# Altium schematic symbol library Popular.SchLib: 194 symbols
Pins are listed as number, name and electrical type; pins without a type are passive.

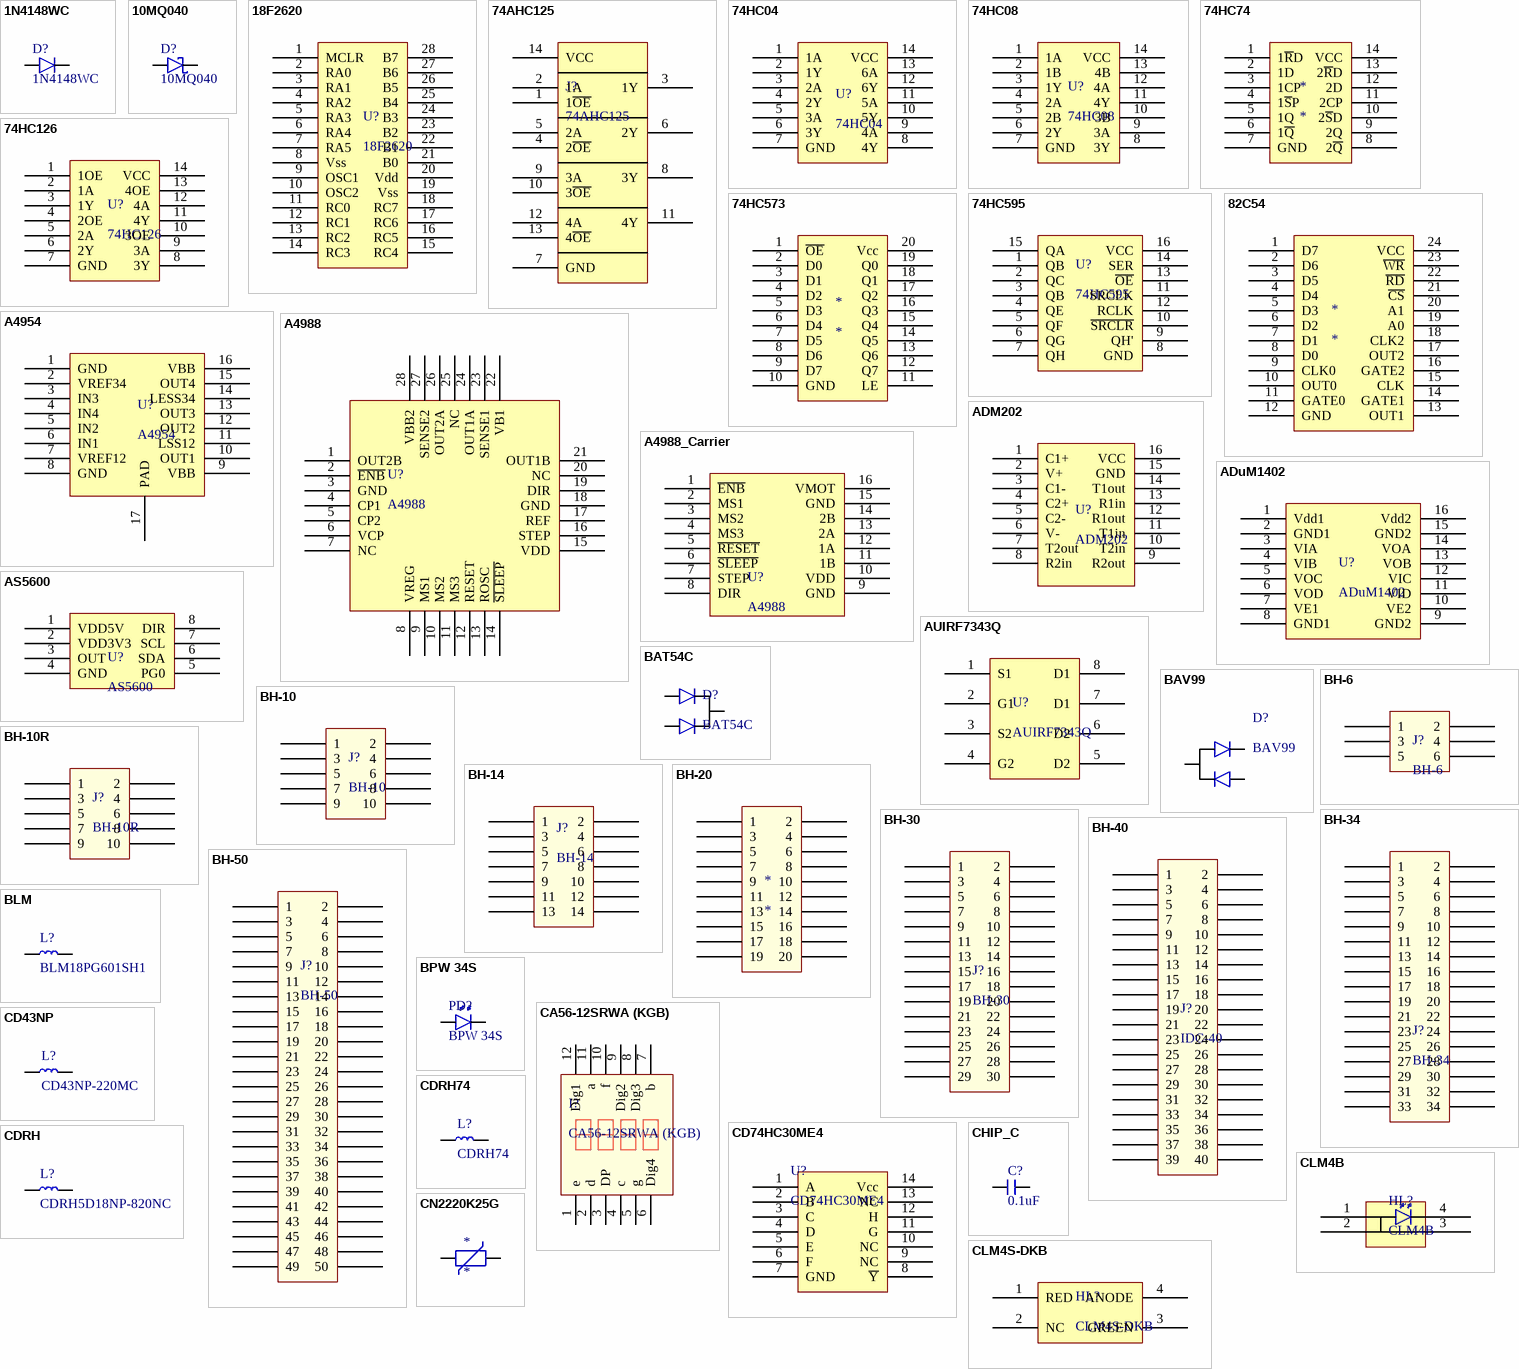
[diagram p0: symbols 1N4148WC to CN2220K25G]

## 1N4148WC
designator D?
footprint SOD323
pins: 1, 2

## 10MQ040
designator D?
Rectifier diode
footprint DO214-AC (Molded Diode, 2-Leads, Body 4,3x2,7mm, IPC High Density)
pins: 1, 2

## 18F2620
designator U?
pins: 1 MCLR, 2 RA0, 3 RA1, 4 RA2, 5 RA3, 6 RA4, 7 RA5, 8 Vss, 9 OSC1, 10 OSC2, 11 RC0, 12 RC1, 13 RC2, 14 RC3, 15 RC4, 16 RC5, 17 RC6, 18 RC7, 19 Vss, 20 Vdd, 21 B0, 22 B1, 23 B2, 24 B3, 25 B4, 26 B5, 27 B6, 28 B7

## 74AHC125
designator J?
footprint SOIC14
pins: 1 1~{OE}, 2 1A, 3 1Y, 4 2~{OE}, 5 2A, 6 2Y, 7 GND, 8 3Y, 9 3A, 10 3~{OE}, 11 4Y, 12 4A, 13 4~{OE}, 14 VCC

## 74HC04
designator U?
footprint SOIC14
pins: 1 1A, 2 1Y, 3 2A, 4 2Y, 5 3A, 6 3Y, 7 GND, 8 4Y, 9 4A, 10 5Y, 11 5A, 12 6Y, 13 6A, 14 VCC

## 74HC08
designator U?
pins: 1 1A, 2 1B, 3 1Y, 4 2A, 5 2B, 6 2Y, 7 GND, 8 3Y, 9 3A, 10 3B, 11 4Y, 12 4A, 13 4B, 14 VCC

## 74HC74
designator *
pins: 1 1~{R}D, 2 1D, 3 1CP, 4 1~{S}P, 5 1Q, 6 1~{Q}, 7 GND, 8 2~{Q}, 9 2Q, 10 2~{S}D, 11 2CP, 12 2D, 13 2~{R}D, 14 VCC

## 74HC126
designator U?
footprint SOIC14
pins: 1 1OE, 2 1A, 3 1Y, 4 2OE, 5 2A, 6 2Y, 7 GND, 8 3Y, 9 3A, 10 3OE, 11 4Y, 12 4A, 13 4OE, 14 VCC

## 74HC573
designator *
pins: 1 ~{OE}, 2 D0, 3 D1, 4 D2, 5 D3, 6 D4, 7 D5, 8 D6, 9 D7, 10 GND, 11 LE, 12 Q7, 13 Q6, 14 Q5, 15 Q4, 16 Q3, 17 Q2, 18 Q1, 19 Q0, 20 Vcc

## 74HC595
designator U?
8-bit shift register
footprint SOIC16
pins: 1 QB, 2 QC, 3 QВ, 4 QE , 5 QF, 6 QG, 7 QH, 8 GND, 9 QH', 10 ~{SRCLR}, 11 SRCLK, 12 RCLK, 13 ~{OE}, 14 SER, 15 QA, 16 VCC

## 82C54
designator *
pins: 1 D7, 2 D6, 3 D5, 4 D4, 5 D3, 6 D2, 7 D1, 8 D0, 9 CLK0, 10 OUT0, 11 GATE0, 12 GND, 13 OUT1, 14 GATE1, 15 CLK, 16 GATE2, 17 OUT2, 18 CLK2, 19 A0, 20 A1, 21 ~{CS}, 22 ~{RD}, 23 ~{WR}, 24 VCC

## A4954
designator U?
DMOS PWM Motor Driver
footprint TSSOP-16P
pins: 1 GND, 2 VREF34, 3 IN3, 4 IN4, 5 IN2, 6 IN1, 7 VREF12, 8 GND, 9 VBB, 10 OUT1, 11 LSS12, 12 OUT2, 13 OUT3, 14 LESS34, 15 OUT4, 16 VBB, 17 PAD

## A4988
designator U?
footprint QFN28 (QFN, 28-Leads, Body 5,00x5,00mm, Pitch 0,50mm, Thermal Pad 3,15x3,15mm, IPC Medium Density)
pins: 1 OUT2B, 2 ~{ENB}, 3 GND, 4 CP1, 5 CP2, 6 VCP, 7 NC, 8 VREG, 9 MS1, 10 MS2, 11 MS3, 12 RESET, 13 ROSC, 14 ~{SLEEP}, 15 VDD, 16 STEP, 17 REF, 18 GND, 19 DIR, 20 NC, 21 OUT1B, 22 VB1, 23 SENSE1, 24 OUT1A, 25 NC, 26 OUT2A, 27 SENSE2, 28 VBB2

## A4988_Carrier
designator U?, comment A4988
footprint A4988
pins: 1 ~{ENB}, 2 MS1, 3 MS2, 4 MS3, 5 ~{RESET}, 6 ~{SLEEP}, 7 STEP, 8 DIR, 9 GND, 10 VDD, 11 1B, 12 1A, 13 2A, 14 2B, 15 GND, 16 VMOT

## ADM202
designator U?
pins: 1 C1+, 2 V+, 3 C1-, 4 C2+, 5 C2-, 6 V-, 7 T2out, 8 R2in, 9 R2out, 10 T2in, 11 T1in, 12 R1out, 13 R1in, 14 T1out, 15 GND, 16 VCC

## ADuM1402
designator U?
Quad-channel digital isolator
footprint SOIC16-7.5 (SOIC, 16-Leads, Body 10,5x7,6mm (max), Pitch 1,27mm, IPC Medium Density)
pins: 1 Vdd1, 2 GND1, 3 VIA, 4 VIB, 5 VOC, 6 VOD, 7 VE1, 8 GND1, 9 GND2, 10 VE2, 11 VID, 12 VIC, 13 VOB, 14 VOA, 15 GND2, 16 Vdd2

## AS5600
designator U?
program magnetic rotary position  sensor
footprint SOIC8 (SOIC, 8-Leads, Body 5,0x4,0mm (max), Pitch 1,27mm, IPC Medium Density)
pins: 1 VDD5V, 2 VDD3V3, 3 OUT, 4 GND, 5 PG0, 6 SDA, 7 SCL, 8 DIR

## AUIRF7343Q
designator U?
MOSFET,NP
footprint SOIC8 (SOIC, 8-Leads, Body 5,0x4,0mm (max), Pitch 1,27mm, IPC Medium Density)
3D model SOIC8 (PCB3D Model)
pins: 1 S1, 2 G1, 3 S2, 4 G2, 5 D2, 6 D2, 7 D1, 8 D1

## BAT54C
designator D?
footprint SOT23 (SOT23, 3-Leads, Body 3,0x2,6mm (max), Pitch 0,95mm, IPC Medium Density)
pins: 1, 2, 3

## BAV99
designator D?
350 mW high-speed switching diode array
footprint SOT23 (SOT23, 3-Leads, Body 3,0x2,6mm (max), Pitch 0,95mm, IPC Medium Density)
pins: 1, 2, 3

## BH-6
designator J?
TE 2-1761713-1
footprint SMC-6 (TE 2-1761713-1)
pins: 1, 2, 3, 4, 5, 6

## BH-10
designator J?
IDC-10MS
footprint BH-10
pins: 1, 2, 3, 4, 5, 6, 7, 8, 9, 10

## BH-10R
designator J?
footprint BH-10R
pins: 1, 2, 3, 4, 5, 6, 7, 8, 9, 10

## BH-14
designator J?
footprint BH-14
pins: 1, 2, 3, 4, 5, 6, 7, 8, 9, 10, 11, 12, 13, 14

## BH-20
designator *
footprint BH-20
pins: 1, 2, 3, 4, 5, 6, 7, 8, 9, 10, 11, 12, 13, 14, 15, 16, 17, 18, 19, 20

## BH-30
designator J?
footprint BH-30
pins: 1, 2, 3, 4, 5, 6, 7, 8, 9, 10, 11, 12, 13, 14, 15, 16, 17, 18, 19, 20, 21, 22, 23, 24, 25, 26, 27, 28, 29, 30

## BH-34
designator J?
pins: 1, 2, 3, 4, 5, 6, 7, 8, 9, 10, 11, 12, 13, 14, 15, 16, 17, 18, 19, 20, 21, 22, 23, 24, 25, 26, 27, 28, 29, 30, 31, 32, 33, 34

## BH-40
designator J?, comment IDC-40
footprint BH-40
pins: 1, 2, 3, 4, 5, 6, 7, 8, 9, 10, 11, 12, 13, 14, 15, 16, 17, 18, 19, 20, 21, 22, 23, 24, 25, 26, 27, 28, 29, 30, 31, 32, 33, 34, 35, 36, 37, 38, 39, 40

## BH-50
designator J?
IDC-50MS
footprint BH-50
pins: 1, 2, 3, 4, 5, 6, 7, 8, 9, 10, 11, 12, 13, 14, 15, 16, 17, 18, 19, 20, 21, 22, 23, 24, 25, 26, 27, 28, 29, 30, 31, 32, 33, 34, 35, 36, 37, 38, 39, 40, 41, 42, 43, 44, 45, 46, 47, 48, 49, 50

## BLM
designator L?, comment BLM18PG601SH1
Ferrite Beads
footprint CHIP_R_0603
pins: 1, 2

## BPW 34S
designator PD?
footprint BWM34S
pins: 1, 2

## CA56-12SRWA (KGB)
designator I?
7x4 segment
pins: 1 e, 2 d, 3 DP, 4 c, 5 g, 6 Dig4, 7 b, 8 Dig3, 9 Dig2, 10 f, 11 a, 12 Dig1

## CD43NP
designator L?, comment CD43NP-220MC
footprint CD43
pins: 1, 2

## CD74HC30ME4
designator U?
8 AND-NO
footprint SOIC14
pins: 1 A, 2 B, 3 C, 4 D, 5 E, 6 F, 7 GND, 8 ~{Y}, 9 NC, 10 NC, 11 G, 12 H, 13 NC, 14 Vcc

## CDRH
designator L?, comment CDRH5D18NP-820NC
footprint CDRH (Inductor CDRH5D18NP-820NC)
pins: 1, 2

## CDRH74
designator L?
Ferrite drum core construction
footprint CDRH74
pins: 1, 2

## CHIP_C
designator C?, comment 0.1uF
capacitor ceramic
footprint CHIP_C_0805
footprint CHIP_C_1206
footprint CHIP_C_1210
footprint CHIP_C_0603
pins: 1, 2

## CLM4B
designator HL?
LED
footprint PLCC4
pins: 1, 2, 3, 4

## CLM4S-DKB
designator HL?
LED
footprint PLCC4
pins: 1 RED, 2 NC, 3 GREEN, 4 ANODE

## CN2220K25G
designator *
footprint CHIP_L_2220
pins: 1, 2

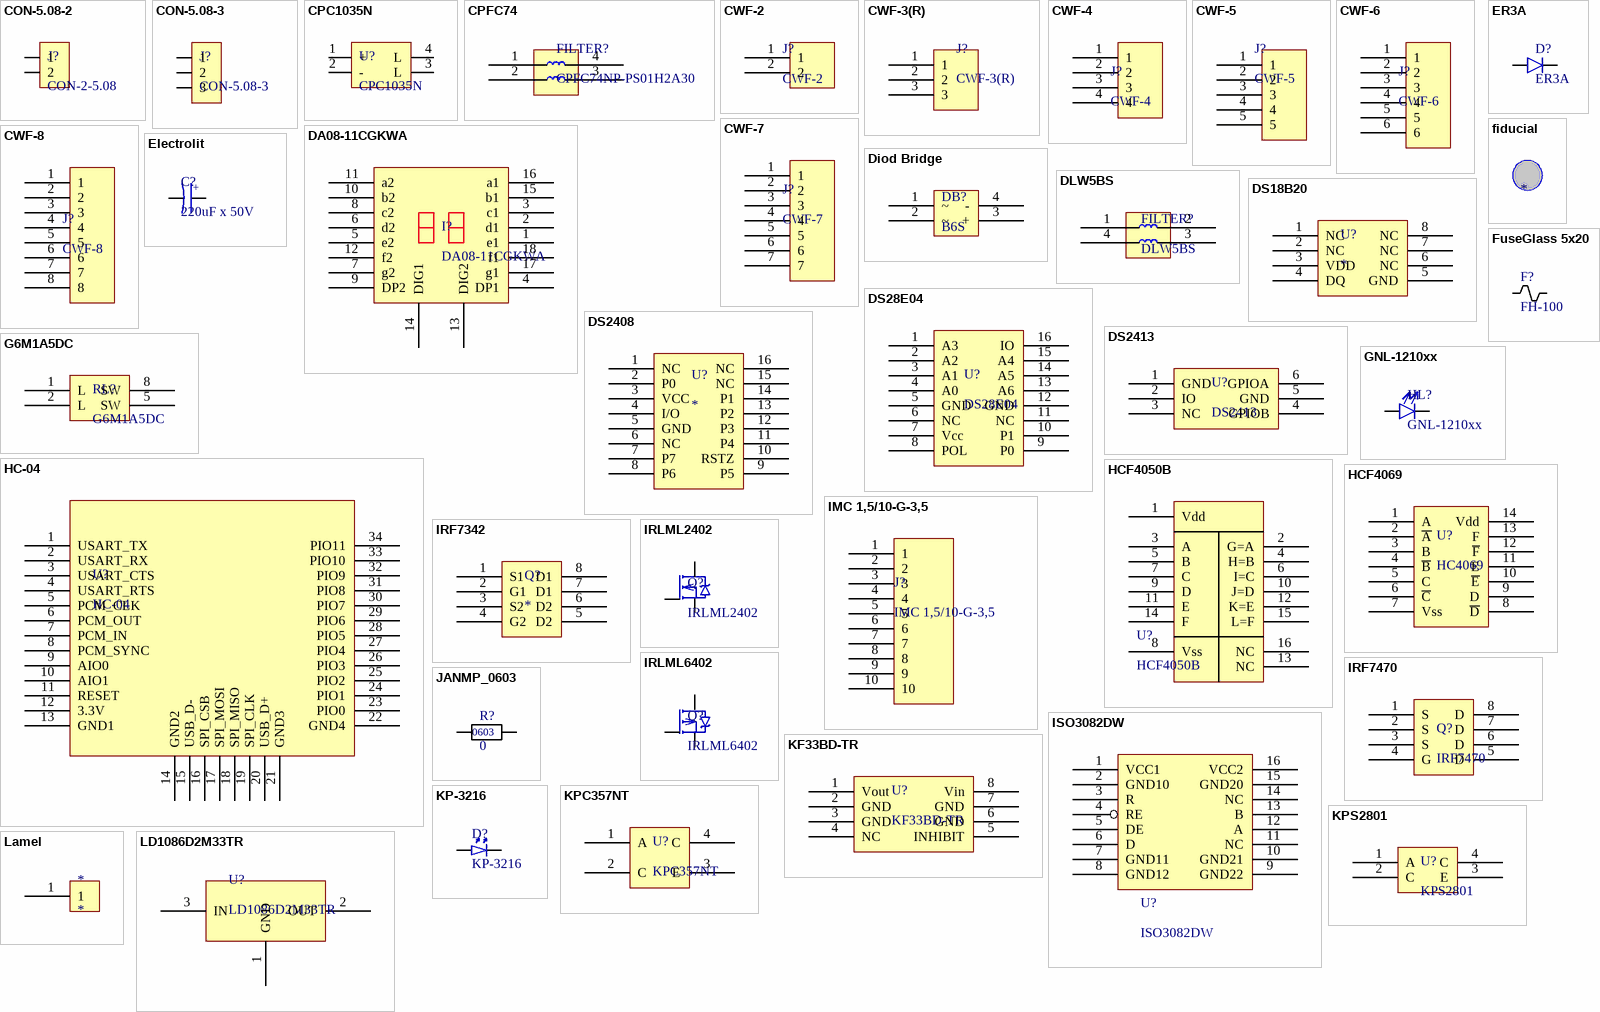
[diagram p1: symbols CON-5.08-2 to LD1086D2M33TR]

## CON-5.08-2
designator J?, comment CON-2-5.08
footprint CON_2_5.08
pins: 1, 2

## CON-5.08-3
designator J?
footprint CON_3_5.08
pins: 1, 2, 3

## CPC1035N
designator U?
4-Pin SOP OptoMOS® Relay
footprint SOP-4 (Footprint not found)
pins: 1 +, 2 -, 3 L, 4 L

## CPFC74
designator FILTER?, comment CPFC74NP-PS01H2A30
footprint CPFC
pins: 1 IN, 2 IN, 3 OUT, 4 OUT

## CWF-2
designator J?
Connector
footprint CWF-2
pins: 1, 2

## CWF-3(R)
designator J?
Conector
footprint CWF-3R
footprint CWF-3
pins: 1, 2, 3

## CWF-4
designator J?
Connector
footprint CWF-4
pins: 1, 2, 3, 4

## CWF-5
designator J?
footprint CWF-5
pins: 1, 2, 3, 4, 5

## CWF-6
designator J?
footprint CWF-6
pins: 1, 2, 3, 4, 5, 6

## CWF-7
designator J?
pins: 1, 2, 3, 4, 5, 6, 7

## CWF-8
designator J?
footprint CWF-8
pins: 1, 2, 3, 4, 5, 6, 7, 8

## DA08-11CGKWA
designator I?
7x2 segment
footprint DIP18_long
pins: 1 e1, 2 d1, 3 c1, 4 DP1, 5 e2, 6 d2, 7 g2, 8 c2, 9 DP2, 10 b2, 11 a2, 12 f2, 13 DIG2, 14 DIG1, 15 b1, 16 a1, 17 g1, 18 f1

## Diod Bridge
designator DB?, comment B6S
footprint DB-1MS
pins: 1 ~, 2 ~, 3 +, 4 -

## DLW5BS
designator FILTER?
Filter
footprint DLW5AH
pins: 1 IN, 2 OUT, 3 OUT, 4 IN

## DS18B20
designator U?
Termometr
footprint SOIC8 (SOIC, 8-Leads, Body 5,0x4,0mm (max), Pitch 1,27mm, IPC Medium Density)
pins: 1 NC, 2 NC, 3 VDD, 4 DQ, 5 GND, 6 NC, 7 NC, 8 NC

## DS28E04
designator U?
2IO 1-Wire
footprint SOIC16
pins: 1 A3, 2 A2, 3 A1, 4 A0, 5 GND, 6 NC, 7 Vcc, 8 POL, 9 P0, 10 P1, 11 NC, 12 GND, 13 A6, 14 A5, 15 A4, 16 IO

## DS2408
designator U?
8IO 1-Wire
footprint SOIC16
pins: 1 NC, 2 P0, 3 VCC, 4 I/O, 5 GND, 6 NC, 7 P7, 8 P6, 9 P5, 10 RSTZ, 11 P4, 12 P3, 13 P2, 14 P1, 15 NC, 16 NC

## DS2413
designator U?
1-wire 2IO
footprint TSOC6
pins: 1 GND, 2 IO, 3 NC, 4 GPIOB, 5 GND, 6 GPIOA

## Electrolit
designator C?, comment 220uF x 50V
footprint ALUM_CAP_G (CE050M0220REG-1010 (YAG))
footprint ALUM_CAP_F
footprint ALUM_CAP_E
footprint ALUM_CAP_C
footprint AlCap_8x8x11
footprint ALCAP_10x20
pins: 1, 2
text: +

## ER3A
designator D?
diode
footprint DO-214AB (SMCJ)
pins: 1, 2

## fiducial
designator *
footprint fidusial

## FuseGlass 5x20
designator F?, comment FH-100
footprint FH-100
pins: 1, 2

## G6M1A5DC
designator RL?
RELAY
footprint SIP8
pins: 1 L, 2 L, 5 SW, 8 SW

## GNL-1210xx
designator HL?
LED
footprint CHIP-LED-1210
pins: 1 C, 2 A

## HC-04
designator U?
Bluetooth
footprint HC-05
pins: 1 USART_TX, 2 USART_RX, 3 USART_CTS, 4 USART_RTS, 5 PCM_CLK, 6 PCM_OUT, 7 PCM_IN, 8 PCM_SYNC, 9 AIO0, 10 AIO1, 11 RESET, 12 3.3V, 13 GND1, 14 GND2, 15 USB_D-, 16 SPI_CSB, 17 SPI_MOSI, 18 SPI_MISO, 19 SPI_CLK, 20 USB_D+, 21 GND3, 22 GND4, 23 PIO0, 24 PIO1, 25 PIO2, 26 PIO3, 27 PIO4, 28 PIO5, 29 PIO6, 30 PIO7, 31 PIO8, 32 PIO9, 33 PIO10, 34 PIO11

## HCF4050B
designator U?
Bufer logic IC
footprint SOIC16
pins: 1 Vdd, 2 G=A, 3 A, 4 H=B, 5 B , 6 I=C, 7 C, 8 Vss, 9 D , 10 J=D, 11 E , 12 K=E, 13 NC, 14 F, 15 L=F, 16 NC

## HCF4069
designator U?, comment HC4069
HEX INVERTER
footprint SOIC14
pins: 1 A, 2 ~{A}, 3 B, 4 ~{B}, 5 C, 6 ~{C}, 7 Vss, 8 ~{D}, 9 D, 10 ~{E}, 11 E, 12 ~{F}, 13 F, 14 Vdd

## IMC 1,5/10-G-3,5
designator J?
Phoenix
footprint IMC 1,5/10-G-3,5
pins: 1, 2, 3, 4, 5, 6, 7, 8, 9, 10

## IRF7342
designator Q?
MOSFET
footprint SOIC8 (SOIC, 8-Leads, Body 5,0x4,0mm (max), Pitch 1,27mm, IPC Medium Density)
pins: 1 S1, 2 G1, 3 S2, 4 G2, 5 D2, 6 D2, 7 D1, 8 D1

## IRF7470
designator Q?
SMPS MOSFET. HEXFET
footprint SOIC8 (SOIC, 8-Leads, Body 5,0x4,0mm (max), Pitch 1,27mm, IPC Medium Density)
3D model SOIC8 (PCB3D Model)
pins: 1 S, 2 S, 3 S, 4 G, 5 D, 6 D, 7 D, 8 D

## IRLML2402
designator Q?
n-chanal MOSFET
footprint SOT23 (SOT23, 3-Leads, Body 3,0x2,6mm (max), Pitch 0,95mm, IPC Medium Density)
pins: 1 G, 2 S, 3 D

## IRLML6402
designator Q?
p-chanal MOSFET
footprint SOT23 (SOT23, 3-Leads, Body 3,0x2,6mm (max), Pitch 0,95mm, IPC Medium Density)
pins: 1 G, 2 S, 3 D

## ISO3082DW
designator U?
Digital Isolators Full & Half- Duplex RS-485
footprint SOIC16-7.5 (SOIC, 16-Leads, Body 10,5x7,6mm (max), Pitch 1,27mm, IPC Medium Density)
pins: 1 VCC1, 2 GND10, 3 R, 4 RE, 5 DE, 6 D, 7 GND11, 8 GND12, 9 GND22, 10 GND21, 11 NC, 12 A, 13 B, 14 NC, 15 GND20, 16 VCC2

## JANMP_0603
designator R?, comment 0
jamper
footprint 0R 0603
pins: 1, 2
text: 0603

## KF33BD-TR
designator U?
Very low drop voltage regulators with inhibit
footprint SOIC8 (SOIC, 8-Leads, Body 5,0x4,0mm (max), Pitch 1,27mm, IPC Medium Density)
pins: 1 Vout, 2 GND, 3 GND, 4 NC, 5 INHIBIT, 6 GND, 7 GND, 8 Vin

## KP-3216
designator D?
LED
footprint CHIP_D_1632
pins: 1 A, 2 C

## KPC357NT
designator U?
4PIN MINI-FLAT PHOTOTRANSISTOR
footprint SOP4
pins: 1 A, 2 C, 3 E, 4 C

## KPS2801
designator U?
4PIN SSOP PHOTOTRANSISTOR
footprint SSOP-4
pins: 1 A, 2 C, 3 E, 4 C

## Lamel
designator *
footprint LAMEL
pins: 1

## LD1086D2M33TR
designator U?
1.5 A adjustable and fixed low drop positive voltage regulator
footprint DPAK (TO-252-3)
pins: 1 GND, 2 OUT, 3 IN

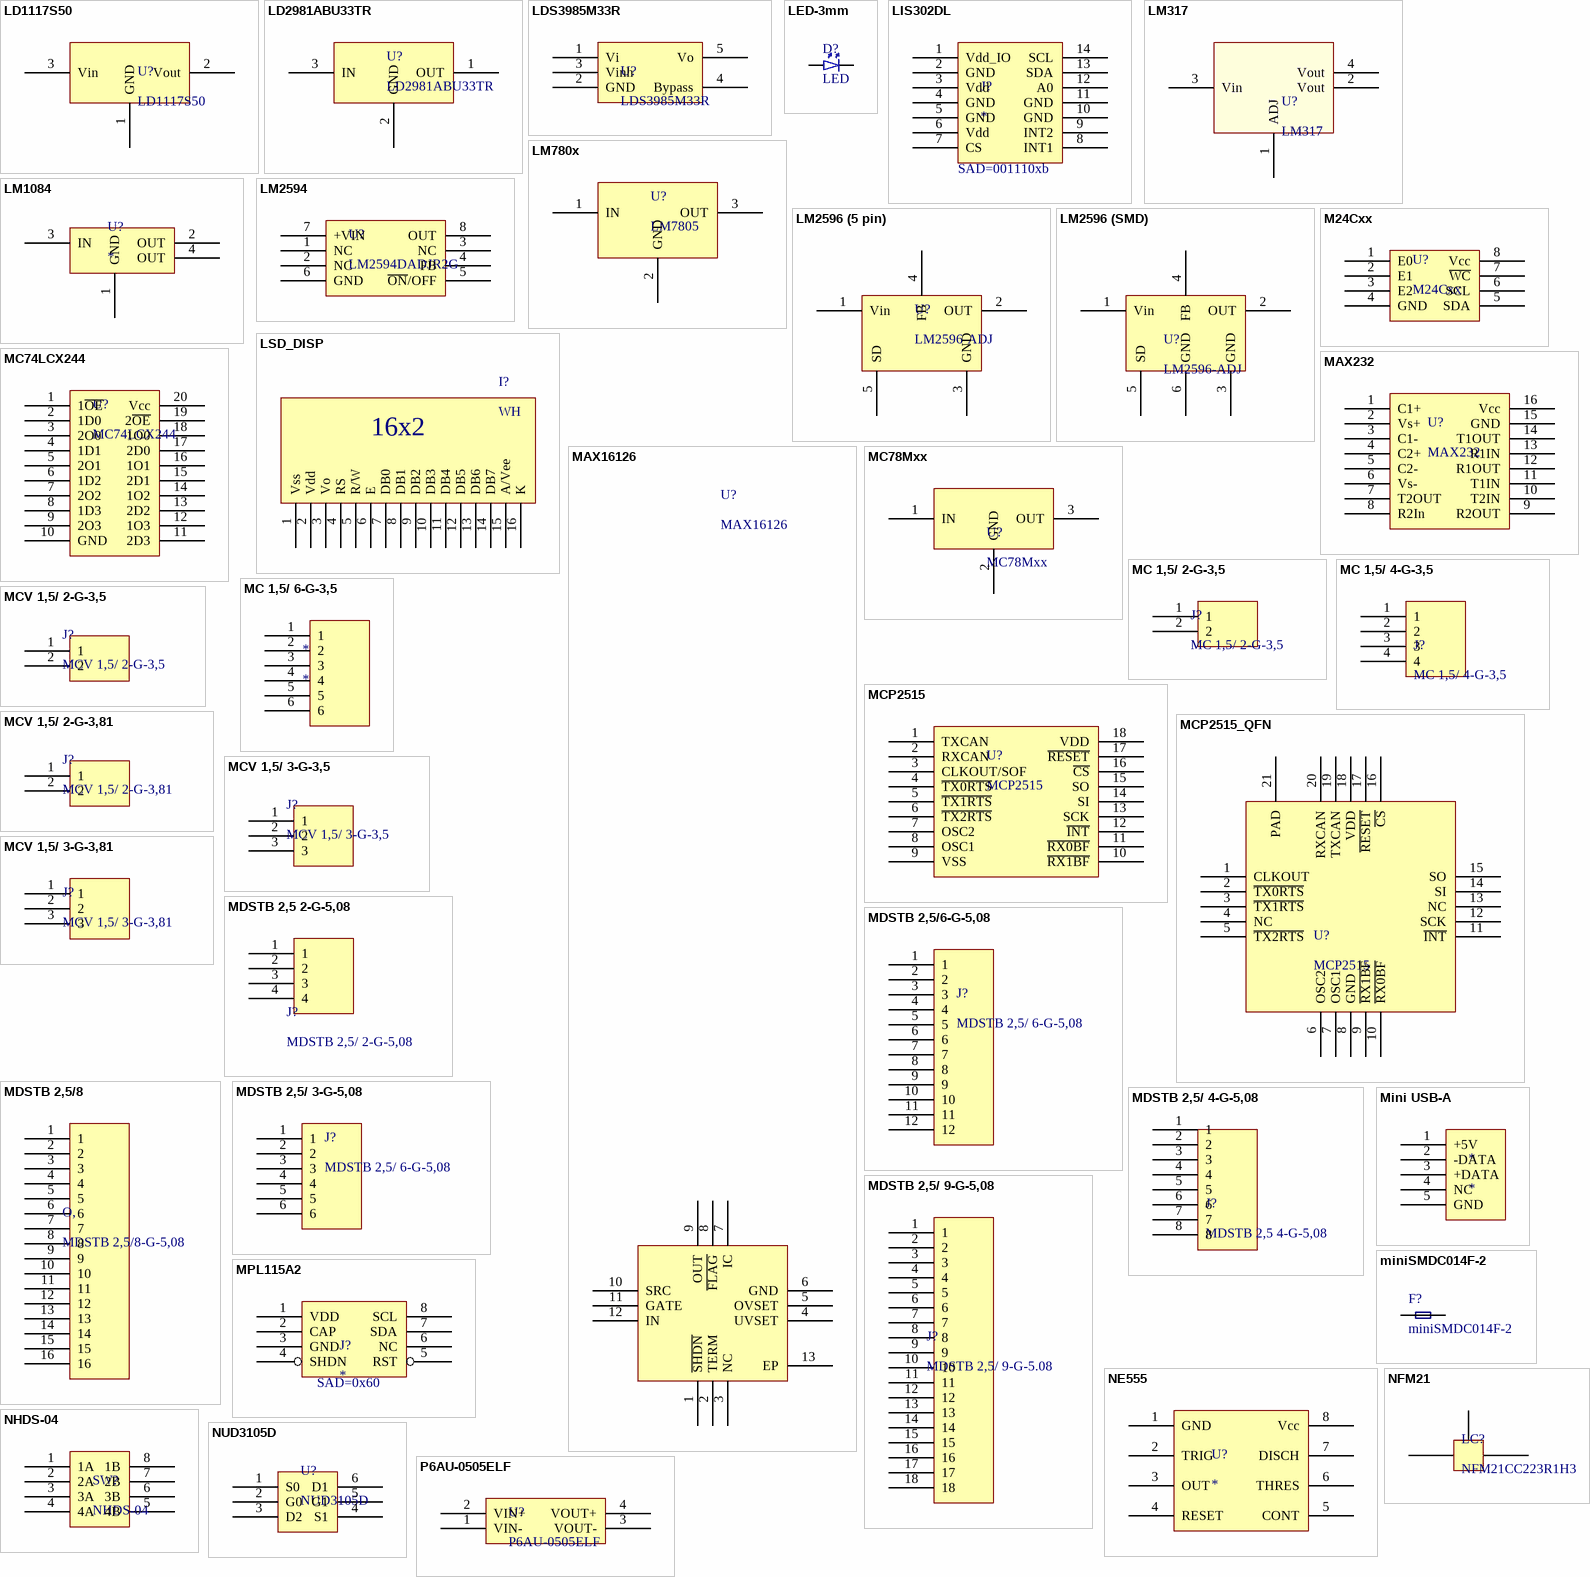
[diagram p2: symbols LD1117S50 to P6AU-0505ELF]

## LD1117S50
designator U?
LDO Voltage Regulators
footprint SOT223
pins: 1 GND, 2 Vout, 3 Vin

## LD2981ABU33TR
designator U?
Voltage Regulator
footprint SOT89
pins: 1 OUT, 2 GND, 3 IN

## LDS3985M33R
designator U?
footprint SOT23-5L
pins: 1 Vi, 2 GND, 3 Vinh, 4 Bypass, 5 Vo

## LED-3mm
designator D?, comment LED
footprint LED-3mm
footprint L-424GDT
footprint L-242YDT
pins: 1 A, 2 C

## LIS302DL
designator J?
motion sensor
footprint LGA14 (LCC, 16-Pins, Body 5,00x3,00mmx0,92mm, Pitch 0,80mm, IPC Medium Density)
pins: 1 Vdd_IO, 2 GND, 3 Vdd, 4 GND, 5 GND, 6 Vdd, 7 CS, 8 INT1, 9 INT2, 10 GND, 11 GND, 12 A0, 13 SDA, 14 SCL
text: SAD=001110xb

## LM317
designator U?
footprint SOT223
pins: 1 ADJ, 2 Vout, 3 Vin, 4 Vout

## LM780x
designator U?, comment LM7805
footprint TO-220
pins: 1 IN, 2 GND, 3 OUT

## LM1084
designator U?
3.3, 5, 12 Linear regulator
footprint TO-263
footprint TO-220
pins: 1 GND, 2 OUT, 3 IN, 4 OUT

## LM2594
designator U?, comment LM2594DADJR2G
0.5 A Step-Down  Voltage Regulator
footprint SOIC8 (SOIC, 8-Leads, Body 5,0x4,0mm (max), Pitch 1,27mm, IPC Medium Density)
pins: 1 NC, 2 NC, 3 NC, 4 FB, 5 ~{ON}/OFF, 6 GND, 7 +VIN, 8 OUT

## LM2596 (5 pin)
designator U?, comment LM2596-ADJ
footprint TO-220-5
pins: 1 Vin, 2 OUT, 3 GND, 4 FB, 5 SD

## LM2596 (SMD)
designator U?, comment LM2596-ADJ
footprint TO263-5
pins: 1 Vin, 2 OUT, 3 GND, 4 FB, 5 SD, 6 GND

## LSD_DISP
designator I?, comment WH
footprint LCD_2*16
pins: 1 Vss, 2 Vdd, 3 Vo, 4 RS, 5 R/W, 6 E, 7 DB0, 8 DB1, 9 DB2, 10 DB3, 11 DB4, 12 DB5, 13 DB6, 14 DB7, 15 A/Vee, 16 K
text: 16x2

## M24Cxx
designator U?
EEPROM I2C
footprint SOIC8 (SOIC, 8-Leads, Body 5,0x4,0mm (max), Pitch 1,27mm, IPC Medium Density)
pins: 1 E0, 2 E1, 3 E2, 4 GND, 5 SDA, 6 SCL, 7 ~{WC}, 8 Vcc

## MAX232
designator U?
footprint SOIC16
pins: 1 C1+, 2 Vs+, 3 C1-, 4 C2+, 5 C2-, 6 Vs-, 7 T2OUT, 8 R2In, 9 R2OUT, 10 T2IN, 11 T1IN, 12 R1OUT, 13 R1IN, 14 T1OUT, 15 GND, 16 Vcc

## MAX16126
designator U?
Voltage protection circuits
footprint QFN12
pins: 1 ~{SHDN}, 2 TERM, 3 NC, 4 UVSET, 5 OVSET, 6 GND, 7 IC, 8 ~{FLAG}, 9 OUT, 10 SRC, 11 GATE, 12 IN, 13 EP

## MC74LCX244
designator U?
CMOS Octal Buffer
footprint SOIC20
pins: 1 1~{OE}, 2 1D0, 3 2O0, 4 1D1, 5 2O1, 6 1D2, 7 2O2, 8 1D3, 9 2O3, 10 GND, 11 2D3, 12 1O3, 13 2D2, 14 1O2, 15 2D1, 16 1O1, 17 2D0, 18 1O0, 19 2~{OE}, 20 Vcc

## MC78Mxx
designator U?
Liner positive voltage regulator
footprint DPAK (TO-252-3)
pins: 1 IN, 2 GND, 3 OUT

## MC 1,5/ 2-G-3,5
designator J?
footprint MC 1,5/ 2-G-3,5
pins: 1, 2

## MC 1,5/ 4-G-3,5
designator J?
footprint MC 1,5/ 4-G-3,5
pins: 1, 2, 3, 4

## MC 1,5/ 6-G-3,5
designator *
footprint MC 1,5/ 6-G-3,5
pins: 1, 2, 3, 4, 5, 6

## MCP2515
designator U?
Stand-Alone CAN Controller With SPI Interface
footprint SOIC18
pins: 1 TXCAN, 2 RXCAN, 3 CLKOUT/SOF, 4 ~{TX0RTS}, 5 ~{TX1RTS}, 6 ~{TX2RTS}, 7 OSC2, 8 OSC1, 9 VSS, 10 ~{RX1BF}, 11 ~{RX0BF}, 12 ~{INT}, 13 SCK, 14 SI, 15 SO, 16 ~{CS}, 17 ~{RESET}, 18 VDD

## MCP2515_QFN
designator U?, comment MCP2515
footprint QFN20
pins: 1 CLKOUT, 2 ~{TX0RTS}, 3 ~{TX1RTS}, 4 NC, 5 ~{TX2RTS}, 6 OSC2, 7 OSC1, 8 GND, 9 ~{RX1BF}, 10 ~{RX0BF}, 11 ~{INT}, 12 SCK, 13 NC, 14 SI, 15 SO, 16 ~{CS}, 17 ~{RESET}, 18 VDD, 19 TXCAN, 20 RXCAN, 21 PAD

## MCV 1,5/ 2-G-3,5
designator J?
PHOENIX
footprint MCV 1,5/ 2-G-3,5
pins: 1, 2

## MCV 1,5/ 2-G-3,81
designator J?
footprint MC 1,5/ 2-G-3,81
pins: 1, 2

## MCV 1,5/ 3-G-3,5
designator J?
PHOENIX
footprint MCV 1,5/ 3-G-3,5
pins: 1, 2, 3

## MCV 1,5/ 3-G-3,81
designator J?
footprint MC 1,5/ 3-G-3,81
pins: 1, 2, 3

## MDSTB 2,5 2-G-5,08
designator J?, comment MDSTB 2,5/ 2-G-5,08
PHOENIX
footprint MDSTB 2,5/ 2-G-5,08
pins: 1, 2, 3, 4

## MDSTB 2,5/6-G-5,08
designator J?, comment MDSTB 2,5/ 6-G-5,08
PHOENIX
footprint MDSTB 2,5/ 6-G-5,08
pins: 1, 2, 3, 4, 5, 6, 7, 8, 9, 10, 11, 12

## MDSTB 2,5/8
designator О,, comment MDSTB 2,5/8-G-5,08
PHOENIX
footprint MDSTB 2,5/ 8-G-5,08
pins: 1, 2, 3, 4, 5, 6, 7, 8, 9, 10, 11, 12, 13, 14, 15, 16

## MDSTB 2,5/ 3-G-5,08
designator J?, comment MDSTB 2,5/ 6-G-5,08
PHOENIX
footprint MDSTB 2,5/ 3-G-5,08
pins: 1, 2, 3, 4, 5, 6

## MDSTB 2,5/ 4-G-5,08
designator J?, comment MDSTB 2,5 4-G-5,08
PHOENIX
footprint MDSTB 2,5/ 4-G-5,08
pins: 1, 2, 3, 4, 5, 6, 7, 8

## MDSTB 2,5/ 9-G-5,08
designator J?, comment MDSTB 2,5/ 9-G-5.08
footprint MDSTB 2,5/ 9-G-5,08
pins: 1, 2, 3, 4, 5, 6, 7, 8, 9, 10, 11, 12, 13, 14, 15, 16, 17, 18

## Mini USB-A
designator *
pins: 1 +5V, 2 -DATA, 3 +DATA, 4 NC, 5 GND

## miniSMDC014F-2
designator F?
Fuse
footprint SMDC014F
pins: 1, 2

## MPL115A2
designator J?
Barometer
footprint LGA8
pins: 1 VDD, 2 CAP, 3 GND, 4 SHDN, 5 RST, 6 NC, 7 SDA, 8 SCL
text: SAD=0x60

## NE555
designator U?
footprint SOIC8 (SOIC, 8-Leads, Body 5,0x4,0mm (max), Pitch 1,27mm, IPC Medium Density)
3D model SOIC8 (PCB3D Model)
pins: 1 GND, 2 TRIG, 3 OUT, 4 RESET, 5 CONT, 6 THRES, 7 DISCH, 8 Vcc

## NFM21
designator LC?, comment NFM21CC223R1H3
footprint EMIFIL
pins: 1, 2, 3

## NHDS-04
designator SW?
DIP-SW-4-SMD
footprint Model Name (Model Description)
footprint Model Name (Model Description)
footprint DSHP (DIP-SW-4-SMD)
pins: 1 1A, 2 2A, 3 3A, 4 4A, 5 4B, 6 3B, 7 2B, 8 1B

## NUD3105D
designator U?
Relay driver
footprint SC-74
pins: 1 S0, 2 G0, 3 D2, 4 S1, 5 G1, 6 D1

## P6AU-0505ELF
designator U?
footprint SIP4
pins: 1 VIN-, 2 VIN+, 3 VOUT-, 4 VOUT+

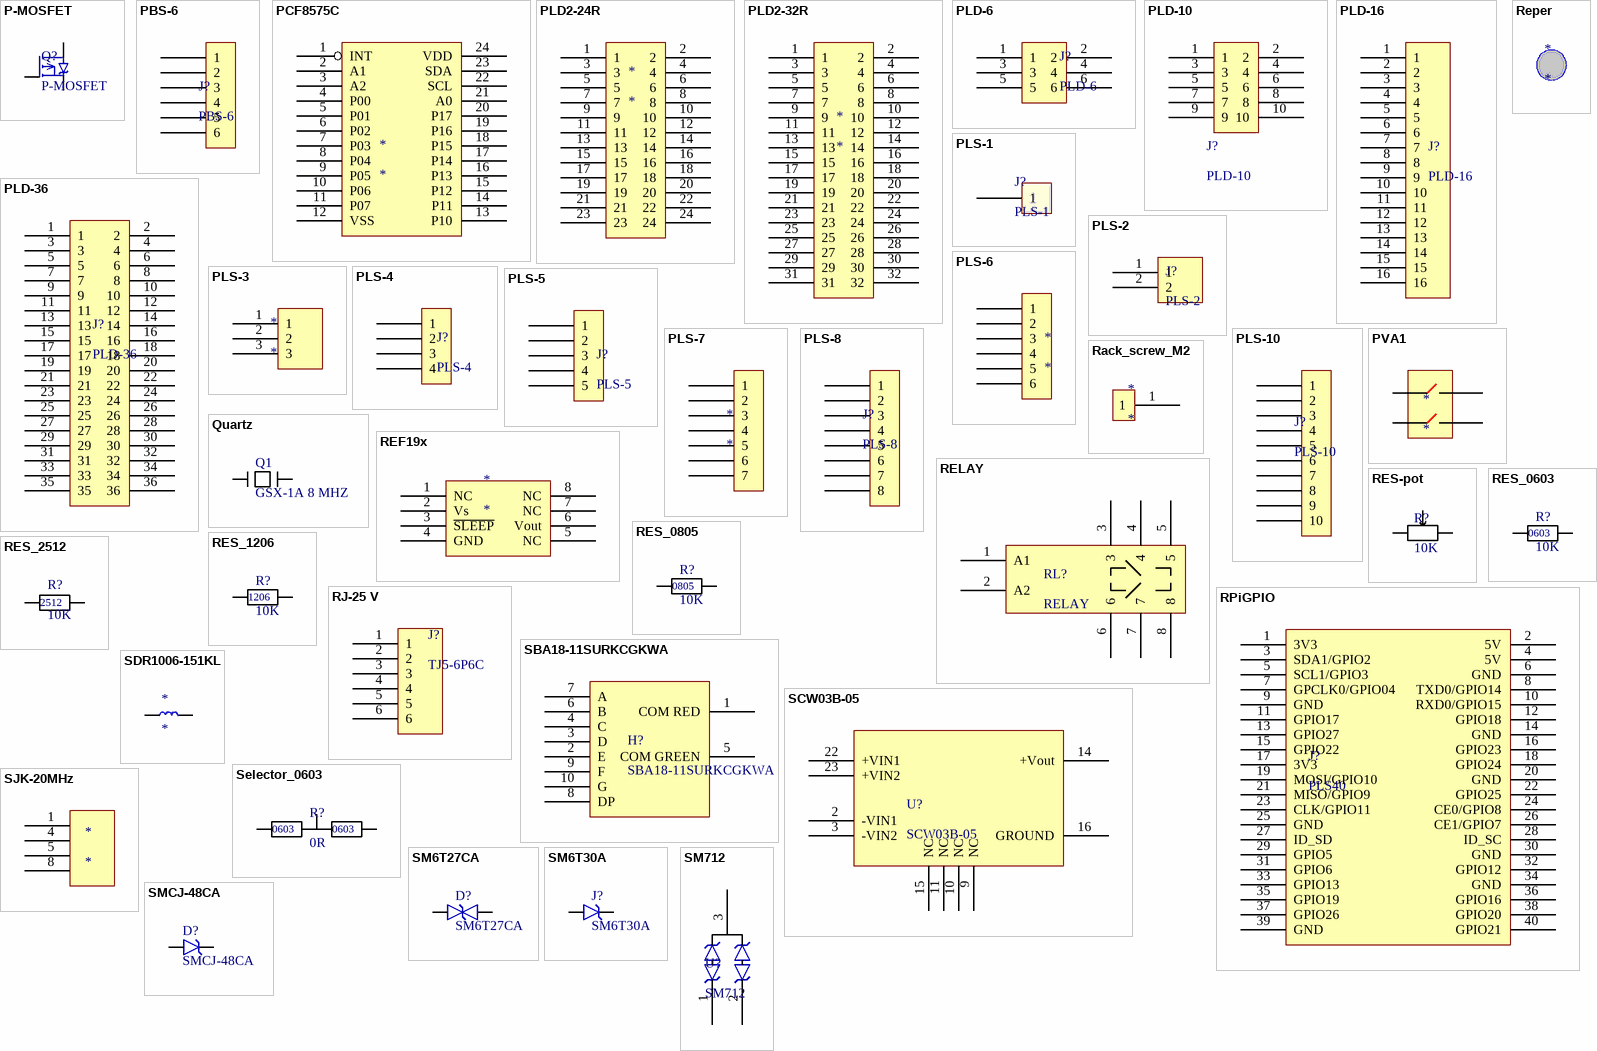
[diagram p3: symbols P-MOSFET to SMCJ-48CA]

## P-MOSFET
designator Q?
footprint DPAK (TO-252-3)
pins: 1 G, 2 D, 3 S

## PBS-6
designator J?
footprint PBS-6
pins: 1, 2, 3, 4, 5, 6

## PCF8575C
designator *
footprint SSOP24
pins: 1 INT, 2 A1, 3 A2, 4 P00, 5 P01, 6 P02, 7 P03, 8 P04, 9 P05, 10 P06, 11 P07, 12 VSS, 13 P10, 14 P11, 15 P12, 16 P13, 17 P14, 18 P15, 19 P16, 20 P17, 21 A0, 22 SCL, 23 SDA, 24 VDD

## PLD2-24R
designator *
footprint PLD-24R
pins: 1, 2, 3, 4, 5, 6, 7, 8, 9, 10, 11, 12, 13, 14, 15, 16, 17, 18, 19, 20, 21, 22, 23, 24

## PLD2-32R
designator *
footprint PLD2-32R
pins: 1, 2, 3, 4, 5, 6, 7, 8, 9, 10, 11, 12, 13, 14, 15, 16, 17, 18, 19, 20, 21, 22, 23, 24, 25, 26, 27, 28, 29, 30, 31, 32

## PLD-6
designator J?
footprint PLD-6
pins: 1, 2, 3, 4, 5, 6

## PLD-10
designator J?
footprint PLD-10
pins: 1, 2, 3, 4, 5, 6, 7, 8, 9, 10

## PLD-16
designator J?
footprint PLD-16
pins: 1, 2, 3, 4, 5, 6, 7, 8, 9, 10, 11, 12, 13, 14, 15, 16

## PLD-36
designator J?
footprint PLD-36
pins: 1, 2, 3, 4, 5, 6, 7, 8, 9, 10, 11, 12, 13, 14, 15, 16, 17, 18, 19, 20, 21, 22, 23, 24, 25, 26, 27, 28, 29, 30, 31, 32, 33, 34, 35, 36

## PLS-1
designator J?
footprint PLS-1
pins: 1

## PLS-2
designator J?
Connector
footprint PLS-2
pins: 1, 2

## PLS-3
designator *
pins: 1, 2, 3

## PLS-4
designator J?
footprint PLS-4
pins: 1, 2, 3, 4

## PLS-5
designator J?
footprint PLS-5
pins: 1, 2, 3, 4, 5

## PLS-6
designator *
footprint PLS-6
pins: 1, 2, 3, 4, 5, 6

## PLS-7
designator *
footprint PLS-7
pins: 1, 2, 3, 4, 5, 6, 7

## PLS-8
designator J?
footprint PLS-8
pins: 1, 2, 3, 4, 5, 6, 7, 8

## PLS-10
designator J?
footprint PLS-10
pins: 1, 2, 3, 4, 5, 6, 7, 8, 9, 10

## PVA1
designator *
footprint PVA01-OA-H1-1.2N
pins: 1, 2, 3, 4

## Quartz
designator Q1, comment GSX-1A 8 MHZ
footprint GSX-1A
footprint KX-K
pins: 1, 2

## Rack_screw_M2
designator *
footprint Rack M2x12
footprint Screw_M2
pins: 1

## REF19x
designator *
footprint SOIC8 (SOIC, 8-Leads, Body 5,0x4,0mm (max), Pitch 1,27mm, IPC Medium Density)
pins: 1 NC, 2 Vs, 3 ~{SLEEP}, 4 GND, 5 NC, 6 Vout, 7 NC, 8 NC

## RELAY
designator RL?
footprint TYCO Relay
pins: 1 A1, 2 A2, 3, 4, 5, 6, 7, 8

## Reper
designator *
footprint REP

## RES-pot
designator R?, comment 10K
footprint RK1233N1
footprint SIP3
pins: 1, 2, 3

## RES_0603
designator R?, comment 10K
Resistor
footprint CHIP_R_0603
pins: 1, 2
text: 0603

## RES_0805
designator R?, comment 10K
Resistor
footprint CHIP_R_0805
pins: 1, 2
text: 0805

## RES_1206
designator R?, comment 10K
Resistor
footprint CHIP_R_1206
pins: 1, 2
text: 1206

## RES_2512
designator R?, comment 10K
Resistor
footprint CHIP_R_2512 (Chip Resistor, 2-Leads, Body 6,4x3,2mm, IPC Medium Density)
pins: 1, 2
text: 2512

## RJ-25 V
designator J?, comment TJ5-6P6C
footprint RJ-25
pins: 1, 2, 3, 4, 5, 6

## RPiGPIO
designator J?, comment PLS40
footprint PLD40
pins: 1 3V3, 2 5V, 3 SDA1/GPIO2, 4 5V, 5 SCL1/GPIO3, 6 GND, 7 GPCLK0/GPIO04, 8 TXD0/GPIO14, 9 GND, 10 RXD0/GPIO15, 11 GPIO17, 12 GPIO18, 13 GPIO27, 14 GND, 15 GPIO22, 16 GPIO23, 17 3V3, 18 GPIO24, 19 MOSI/GPIO10, 20 GND, 21 MISO/GPIO9, 22 GPIO25, 23 CLK/GPIO11, 24 CE0/GPIO8, 25 GND, 26 CE1/GPIO7, 27 ID_SD, 28 ID_SC, 29 GPIO5, 30 GND, 31 GPIO6, 32 GPIO12, 33 GPIO13, 34 GND, 35 GPIO19, 36 GPIO16, 37 GPIO26, 38 GPIO20, 39 GND, 40 GPIO21

## SBA18-11SURKCGKWA
designator H?
footprint 1'8 Ind
pins: 1 COM RED, 2 E, 3 D, 4 C, 5 COM GREEN, 6 B, 7 A, 8 DP, 9 F, 10 G

## SCW03B-05
designator U?
footprint DIP24 (DCDC)
pins: 2 -VIN1, 3 -VIN2, 9 NC, 10 NC, 11 NC, 14 +Vout, 15 NC, 16 GROUND, 22 +VIN1, 23 +VIN2

## SDR1006-151KL
designator *
footprint SDR1006
pins: 1, 2

## Selector_0603
designator R?, comment 0R
footprint 0R 0603 selector
pins: 1, 2, 3
text: 0603

## SJK-20MHz
designator *
pins: 1 1~{R}D, 4 1~{S}P, 5 1Q, 8 GND

## SM6T27CA
designator D?
ESD protection
footprint DO-214AA (SMB)
pins: 1, 2

## SM6T30A
designator J?
protect diode
footprint DO-214AA (SMB)
pins: 1, 2

## SM712
designator U?
footprint SOT23 (SOT23, 3-Leads, Body 3,0x2,6mm (max), Pitch 0,95mm, IPC Medium Density)
pins: 1, 2, 3

## SMCJ-48CA
designator D?
footprint DO-214AB (SMCJ)
pins: 1, 2

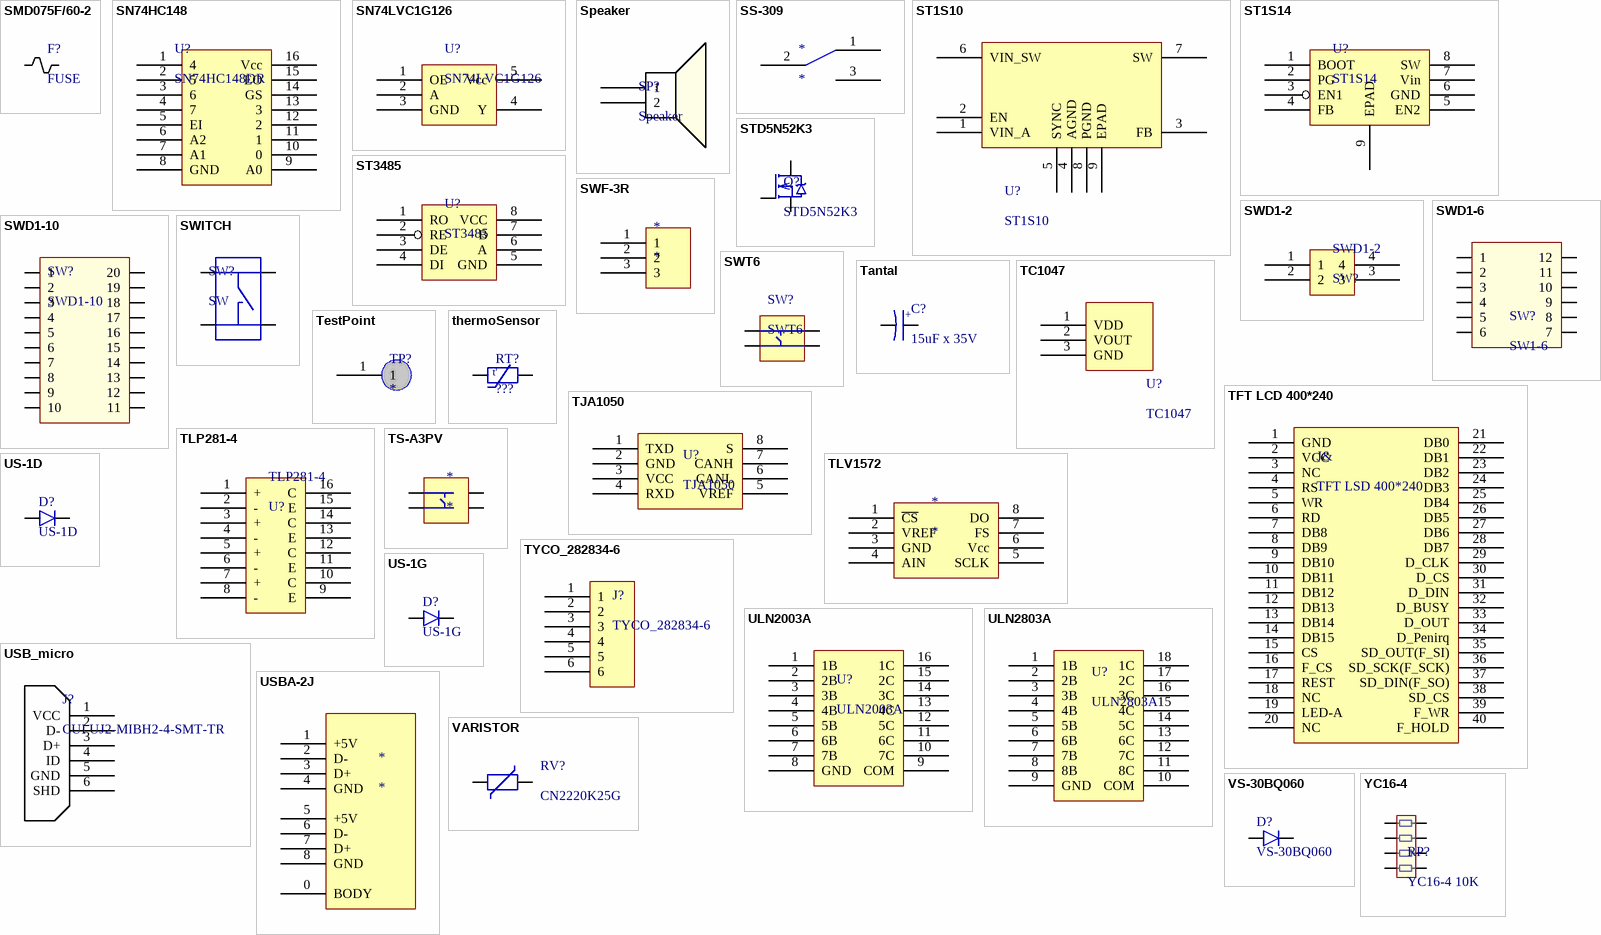
[diagram p4: symbols SMD075F/60-2 to YC16-4]

## SMD075F/60-2
designator F?, comment FUSE
footprint SMD075F
pins: 1, 2

## SN74HC148
designator U?, comment SN74HC148DR
Encoder 8-3
footprint SOIC16
pins: 1 4, 2 5, 3 6, 4 7, 5 EI, 6 A2, 7 A1, 8 GND, 9 A0, 10 0, 11 1, 12 2, 13 3, 14 GS, 15 EO, 16 Vcc

## SN74LVC1G126
designator U?
Single bus buffer gate
footprint SOT23-5L
pins: 1 OE, 2 A, 3 GND, 4 Y, 5 Vcc

## Speaker
designator SP?
pins: 1, 2

## SS-309
designator *
footprint SS-309
pins: 1, 2, 3

## ST1S10
designator U?
Power Step-Down 3A
footprint PSO8
pins: 1 VIN_A, 2 EN, 3 FB, 4 AGND, 5 SYNC, 6 VIN_SW, 7 SW, 8 PGND, 9 EPAD

## ST1S14
designator U?
3A step-down switching regulator
footprint HSOP8
pins: 1 BOOT, 2 PG, 3 EN1, 4 FB, 5 EN2, 6 GND, 7 Vin, 8 SW, 9 EPAD

## ST3485
designator U?
RS485 transeiver
footprint SOIC8 (SOIC, 8-Leads, Body 5,0x4,0mm (max), Pitch 1,27mm, IPC Medium Density)
pins: 1 RO, 2 RE, 3 DE, 4 DI, 5 GND (power), 6 A, 7 B, 8 VCC

## STD5N52K3
designator Q?
N-MOSFET
footprint DPAK (TO-252-3)
pins: 1 G, 2 D, 3 S

## SWD1-2
designator SWD1-2, comment SW?
footprint SWD1-2
pins: 1, 2, 3, 4

## SWD1-6
designator SW?, comment SW1-6
footprint SWD1-6
pins: 1, 2, 3, 4, 5, 6, 7, 8, 9, 10, 11, 12

## SWD1-10
designator SW?
footprint SWD1-10
pins: 1, 2, 3, 4, 5, 6, 7, 8, 9, 10, 11, 12, 13, 14, 15, 16, 17, 18, 19, 20

## SWF-3R
designator *
pins: 1, 2, 3

## SWITCH
designator SW?, comment SW
footprint SWT9
pins: 1, 2, 3, 4

## SWT6
designator SW?
footprint SWT6
pins: 1, 2, 3, 4

## Tantal
designator C?, comment 15uF x 35V
tantalum capacitor
footprint Tantal - A
footprint Tantal - B
footprint TANTAL - C
footprint Tantal - D
footprint TANTAL - E
pins: 1, 2
text: +

## TC1047
designator U?
Temperature Sensor
footprint SOT23 (SOT23, 3-Leads, Body 3,0x2,6mm (max), Pitch 0,95mm, IPC Medium Density)
pins: 1 VDD, 2 VOUT, 3 GND

## TestPoint
designator TP?
footprint TestPoint
pins: 1

## TFT LCD 400*240
designator J&, comment TFT LSD 400*240
pins: 1 GND, 2 VCC, 3 NC, 4 RS, 5 WR, 6 RD, 7 DB8, 8 DB9, 9 DB10, 10 DB11, 11 DB12, 12 DB13, 13 DB14, 14 DB15, 15 CS, 16 F_CS, 17 REST, 18 NC, 19 LED-A, 20 NC, 21 DB0, 22 DB1, 23 DB2, 24 DB3, 25 DB4, 26 DB5, 27 DB6, 28 DB7, 29 D_CLK, 30 D_CS, 31 D_DIN, 32 D_BUSY, 33 D_OUT, 34 D_Penirq, 35 SD_OUT(F_SI), 36 SD_SCK(F_SCK), 37 SD_DIN(F_SO), 38 SD_CS, 39 F_WR, 40 F_HOLD

## thermoSensor
designator RT?, comment ???
pins: 1, 2
text: t'

## TJA1050
designator U?
High speed CAN transceiver
footprint SOIC8 (SOIC, 8-Leads, Body 5,0x4,0mm (max), Pitch 1,27mm, IPC Medium Density)
pins: 1 TXD, 2 GND, 3 VCC, 4 RXD, 5 VREF, 6 CANL, 7 CANH, 8 S

## TLP281-4
designator TLP281-4, comment U?
footprint SOIC16
pins: 1 +, 2 -, 3 +, 4 -, 5 +, 6 -, 7 +, 8 -, 9 E, 10 C, 11 E, 12 C, 13 E, 14 C, 15 E, 16 C

## TLV1572
designator *
footprint SOIC8 (SOIC, 8-Leads, Body 5,0x4,0mm (max), Pitch 1,27mm, IPC Medium Density)
pins: 1 ~{CS}, 2 VREF, 3 GND, 4 AIN, 5 SCLK, 6 Vcc, 7 FS, 8 DO

## TS-A3PV
designator *
footprint TS-A3PV
pins: 1, 2, 3, 4

## TYCO_282834-6
designator J?
footprint TYCO_282834-6
pins: 1, 2, 3, 4, 5, 6

## ULN2003A
designator U?
Darligton 7NPN
footprint SOIC16
pins: 1 1B, 2 2B, 3 3B, 4 4B, 5 5B, 6 6B, 7 7B, 8 GND, 9 COM, 10 7C, 11 6C, 12 5C, 13 4C, 14 3C, 15 2C, 16 1C

## ULN2803A
designator U?
Darligton 8NPN
footprint SOIC18
pins: 1 1B, 2 2B, 3 3B, 4 4B, 5 5B, 6 6B, 7 7B, 8 8B, 9 GND, 10 COM, 11 8C, 12 7C, 13 6C, 14 5C, 15 4C, 16 3C, 17 2C, 18 1C

## US-1D
designator D?
Surface Mount Ultra Fast Rectifier
footprint DO214-AC (Molded Diode, 2-Leads, Body 4,3x2,7mm, IPC High Density)
pins: 1, 2

## US-1G
designator D?
Surface Mount Ultra Fast Rectifier
footprint DO214-AC (Molded Diode, 2-Leads, Body 4,3x2,7mm, IPC High Density)
pins: 1, 2

## USB_micro
designator J?, comment CUI UJ2-MIBH2-4-SMT-TR
Micro USB connector
footprint UJ2-MIBH2-4-SMT
pins: 1 VCC, 2 D-, 3 D+, 4 ID, 5 GND, 6 SHD

## USBA-2J
designator *
pins: 0 BODY, 1 +5V, 2 D-, 3 D+, 4 GND, 5 +5V, 6 D-, 7 D+, 8 GND

## VARISTOR
designator RV?, comment CN2220K25G
footprint CHIP_L_2220
pins: 1, 2

## VS-30BQ060
designator D?
Schottky 3.0A
footprint DO-214AB (SMCJ)
pins: 1, 2

## YC16-4
designator RP?, comment YC16-4 10K
footprint YC16-4 (Res array)
pins: 1, 2, 3, 4, 5, 6, 7, 8